# Altium schematic symbol library SCH - DRIVER - LED - TI TLC59212_PW_20.SchLib: 1 symbol
Pins are listed as number, name and electrical type; pins without a type are passive.

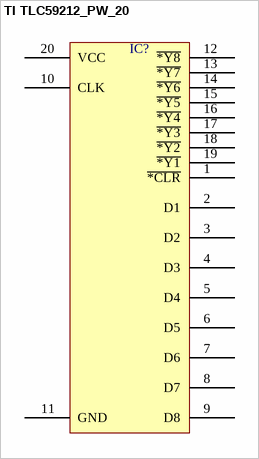
[diagram p0: symbol TI TLC59212_PW_20]

## TI TLC59212_PW_20
designator IC?  (value not drawn)
pins: 1 ~{*CLR}, 2 D1, 3 D2, 4 D3, 5 D4, 6 D5, 7 D6, 8 D7, 9 D8, 10 CLK, 11 GND, 12 ~{*Y8}, 13 ~{*Y7}, 14 ~{*Y6}, 15 ~{*Y5}, 16 ~{*Y4}, 17 ~{*Y3}, 18 ~{*Y2}, 19 ~{*Y1}, 20 VCC